# Altium footprint library Ant.PcbLib: 32 footprints (part 1 of 2)
Each footprint in its own frame and in the unit in brackets; x right, y up, seen from the top. Pads: shape width x height; smd on the part's side, far side on the other; paste and mask are expansions set on the pad; w line width, h text height; cw(c..) or ccw(c..) is an arc to the next point about the centre after c.
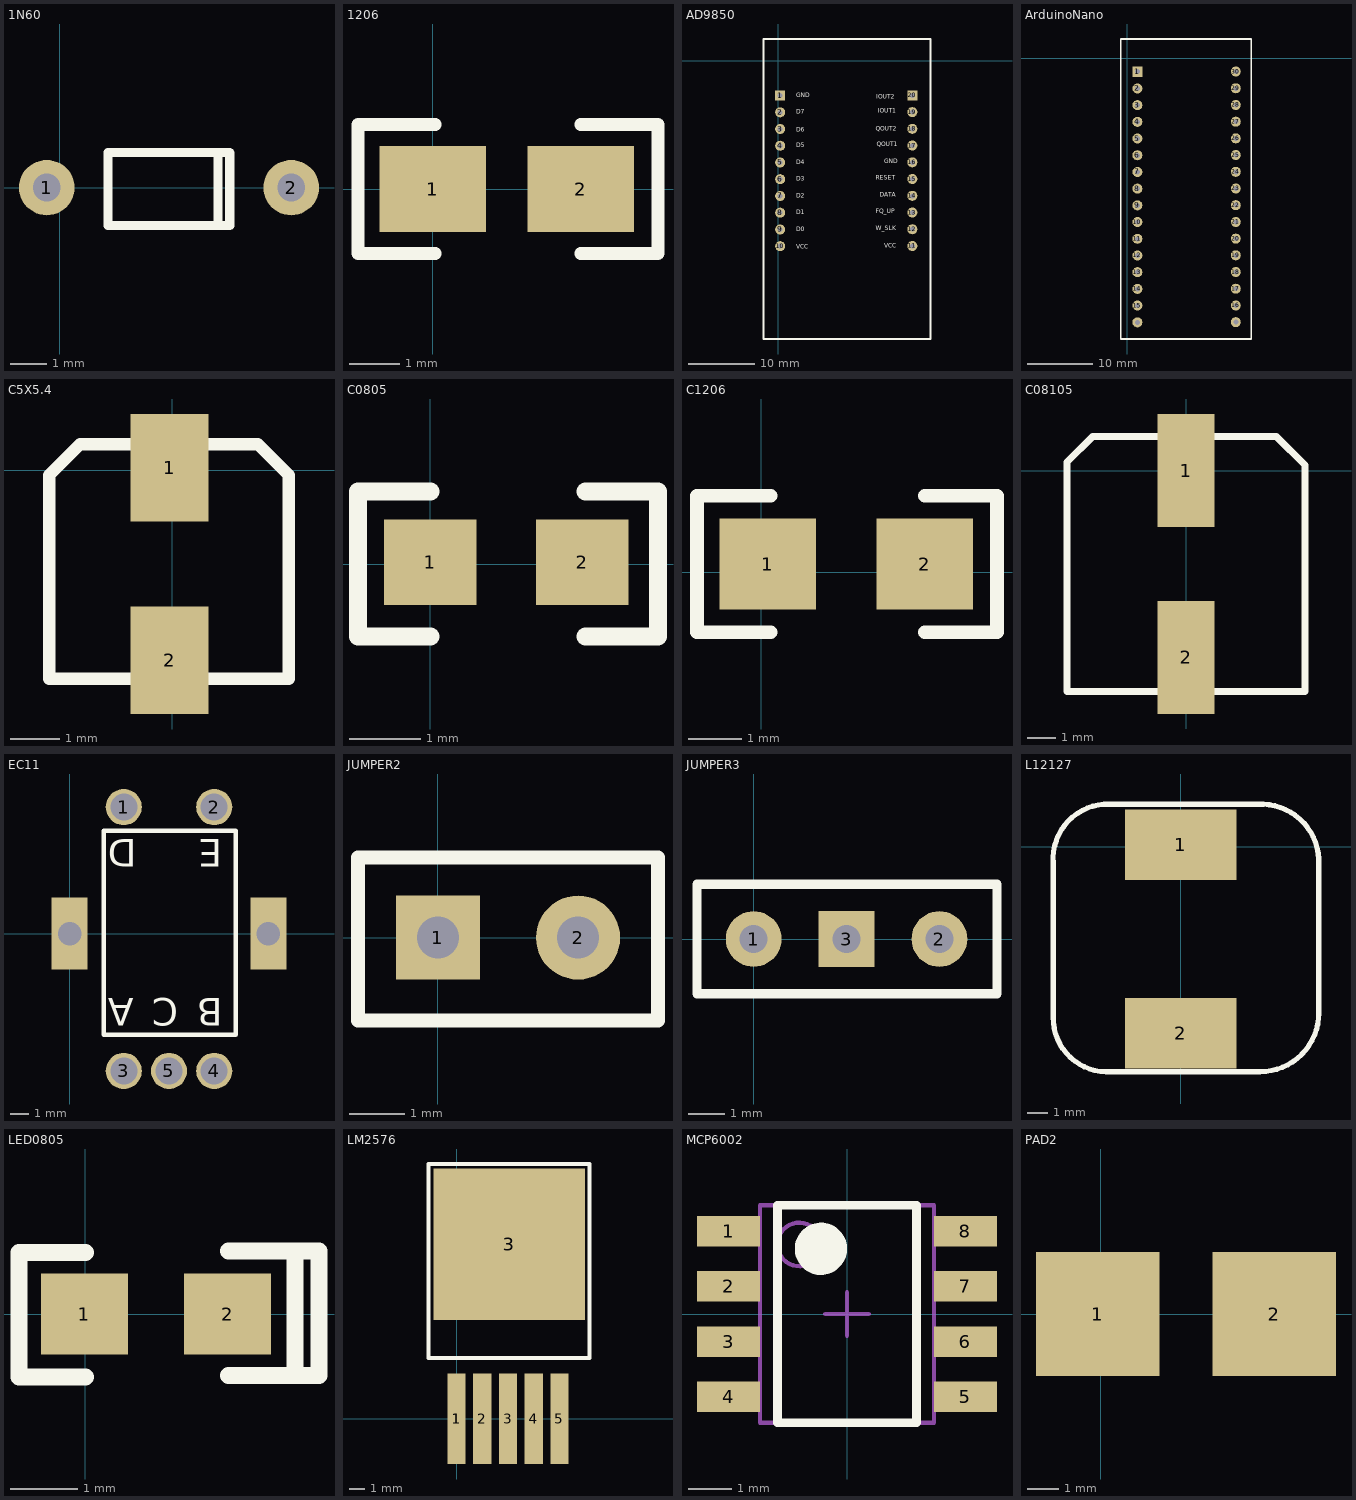
[diagram p0: the footprints below, top view; thin cyan lines are the x and y axes]

## 1N60 [mil]
pads (2):
  round 60 hole 30: 1(-14,0) 2(250,0)
Top Overlay:
  lines w10: 170.87,-38 170.87,37 ; 183,-41 52,-41 52,38 183,38 ; 183.52,-41 183.52,37.74
3D body "DIO(1N4007).STEP": height 100.5, standoff -100, extent -96,-52 334,49

## 1206 [mm]
pads (2):
  rect 2.1x1.7 smd: 1(0,0) 2(2.921,0)
Top Overlay:
  lines w0.254: 0.051,-1.27 -1.473,-1.27 -1.473,1.27 0.051,1.27 ; 2.921,-1.27 4.445,-1.27 4.445,1.27 2.921,1.27
3D body "RES1206.STEP": height 1, standoff 0, extent -0.203,-0.8 2.997,0.8

## AD9850 [mil]
pads (20):
  rect 60x60 hole 30: 1(10,-208) 20(800,-207)
  round 60 hole 30: 2(10,-308) 3(10,-408) 4(10,-508) 5(10,-608) 6(10,-708) 7(10,-808) 8(10,-908) 9(10,-1008) 10(10,-1108) 11(800,-1107) 12(800,-1007) 13(800,-907) 14(800,-807) 15(800,-707) 16(800,-607) 17(800,-507) 18(800,-407) 19(800,-307)
Top Overlay:
  lines w10: -90,-1663 909,-1663 909,130 -90,130 -90,-1663
  text "IOUT2" at 584.33,-227 h26
  text "IOUT1" at 593,-312 h26
  text "QOUT2" at 580,-417 h26
  text "QOUT1" at 588.66,-512 h26
  text "GND" at 631.98,-612 h26
  text "RESET" at 580,-712 h26
  text "DATA" at 605.99,-812 h26
  text "FQ_UP" at 580,-912 h26
  text "W_SLK" at 580,-1012 h26
  text "VCC" at 631.98,-1117 h26
  text "VCC" at 105,-1123 h26
  text "D0" at 105,-1018 h26
  text "D1" at 105,-918 h26
  text "D2" at 105,-818 h26
  text "D3" at 105,-718 h26
  text "D4" at 105,-618 h26
  text "D5" at 105,-518 h26
  text "D6" at 105,-423 h26
  text "D7" at 105,-318 h26
  text "GND" at 105,-218 h26
3D body "paizheng 5mm 9pin.step": height 180, standoff -115, extent -40,-1060 60,-160
3D body "paizheng 5mm 9pin.step": height 180, standoff -115, extent 750,-1056.99 850,-156.99

## ArduinoNano [mil]
pads (32):
  rect 60x60 hole 30: 1(60,-80)
  round 60 hole 30: 2(60,-180) 3(60,-280) 4(60,-380) 5(60,-480) 6(60,-580) 7(60,-680) 8(60,-780) 9(60,-880) 10(60,-980) 11(60,-1080) 12(60,-1180) 13(60,-1280) 14(60,-1380) 15(60,-1480) 16(649,-1479) 17(649,-1379) 18(649,-1279) 19(649,-1179) 20(649,-1079) 21(649,-979) 22(649,-879) 23(649,-779) 24(649,-679) 25(649,-579) 26(649,-479) 27(649,-379) 28(649,-279) 29(649,-179) 30(649,-79) ""(60,-1580) ""(649,-1579)
Top Overlay:
  lines w10: -40,-1680 742,-1680 742,116 -40,116 -40,-1680
3D body "paizheng 5mm 9pin.step": height 180, standoff -115, extent 10,-929.99 110,-29.99
3D body "paizheng 5mm 9pin.step": height 180, standoff -115, extent 10,-1623.99 110,-723.99
3D body "paizheng 5mm 9pin.step": height 180, standoff -115, extent 600,-924 700,-24
3D body "paizheng 5mm 9pin.step": height 180, standoff -115, extent 600,-1613 700,-713

## C5X5.4 [mil]
pads (2):
  rect 62.99x86.61 smd: 1(-2,2) 2(-2,-153)
Top Overlay:
  lines w10: -99,-168 94,-168 94,-4 69,21 -74,21 -99,-4 -99,-168
3D body "CAPE-B.STEP": height 212.6, standoff 0, extent -85.29,-162.55 84,18.55

## C0805 [mm]
pads (2):
  rect 1.3x1.2 smd: 1(0,0.025) 2(2.134,0.025)
Top Overlay:
  lines w0.254: 0,-1.016 -1.016,-1.016 -1.016,1.016 0,1.016 ; 2.184,-1.016 3.2,-1.016 3.2,1.016 2.184,1.016
3D body "电容0805.STEP": height 0.8, standoff 0, extent 0.042,-0.599 2.042,0.65

## C1206 [mil]
pads (2):
  rect 70.87x66.93 smd: 1(5,6) 2(120,6)
Top Overlay:
  lines w10: 7,-44 -47,-44 -47,56 7,56 ; 120,-43.99 173,-43.99 173,56.01 120,56.01
3D body "CAPC3216(1206).STEP": height 37.4, standoff 0, extent -0.99,-25.49 125,37.51

## C08105 [mm]
pads (2):
  rect 2x4 smd: 1(0,0) 2(0,-6.6)
Top Overlay:
  lines w0.254: -4.2,-7.8 -4.2,0.3 -3.3,1.2 3.2,1.2 4.2,0.2 4.2,-7.8 -4.2,-7.8
3D body "CAPE-E.STEP": height 6.2, standoff 0, extent -4.185,-7.777 4.115,1.223

## EC11 [mm]
pads (7):
  round 2 hole 1.5: 1(3,7) 2(8,7) 3(3,-7.6) 4(8,-7.6) 5(5.5,-7.6)
  rect 2x4 hole 1.3 square: ""(0,0) ""(11,0)
Top Overlay:
  lines w0.254: 1.9,-5.6 1.9,5.7 9.2,5.7 9.2,-5.6 1.9,-5.6
  text "B" at 8.484,-3.581 h1.52
  text "C" at 6.02,-3.581 h1.52
  text "A" at 3.556,-3.581 h1.52
  text "E" at 8.458,5.207 h1.52
  text "D" at 3.708,5.207 h1.52

## JUMPER2 [mil]
pads (2):
  rect 60x60 hole 30: 1(0,0)
  round 60 hole 30: 2(100,0)
Top Overlay:
  lines w10: -57,-59 157,-59 157,57 -57,57 -57,-59
3D body "HEADER 2H.STEP": height 170.28, standoff -118.11, extent -50,-51.8 150,273.8

## JUMPER3 [mil]
pads (3):
  round 60 hole 30: 1(0,0) 2(200,0)
  rect 60x60 hole 30: 3(100,0)
Top Overlay:
  lines w10: -61,-59 -61,59 262,59 262,-59 -61,-59

## L12127 [mm]
pads (2):
  rect 5.5x3.5 smd: 1(0,0.1) 2(0,-9.2)
Top Overlay:
  lines w0.254: -6.3,-8.4 ccw(c-3.65,-8.45) -3.7,-11.1 3.9,-11.1 ccw(c3.9,-8.2) 6.8,-8.2 6.8,-0.6 ccw(c3.95,-0.75) 3.8,2.1 -3.8,2.1 ccw(c-3.6,-0.6) -6.3,-0.8 -6.3,-8.4
3D body "CD127.STEP": height 6.9, standoff 0.2, extent -6.148,-10.695 6.352,1.805

## LED0805 [mm]
pads (2):
  rect 1.3x1.2 smd: 1(-0.016,0) 2(2.117,0)
Top Overlay:
  lines w0.254: 0,-0.94 -0.991,-0.94 -0.991,0.914 0,0.914 ; 2.134,-0.914 3.124,-0.914 ; 2.134,0.94 3.124,0.94 ; 3.124,-0.914 3.48,-0.914 3.48,0.94 3.124,0.94 ; 3.124,-0.914 3.124,0.94
3D body "LED0805.STEP": height 1.1, standoff 0, extent 0.032,-0.599 2.052,0.65

## LM2576 [mm]
pads (7):
  rect 1.2x6 smd: 1(0,0) 1(0,0) 2(1.7,0) 3(3.4,0) 4(5.1,0) 5(6.8,0)
  rect 10x10 smd: 3(3.48,11.532)
Top Overlay:
  lines w0.254: -1.854,4 -1.854,16.84 8.788,16.84 8.788,4 -1.854,4
3D body "TO263-5.STEP": height 5.18, standoff 0.38, extent -1.368,0.598 8.632,16.268

## MCP6002 [mm] "SOIC, 8-Leads, Body 4.90x3.85mm, Pitch 1.27mm, IPC Medium Density"
height 1.75
pads (8):
  rect 1.45x0.7 smd: 1(-2.725,1.905) 2(-2.725,0.635) 3(-2.725,-0.635) 4(-2.725,-1.905) 5(2.725,-1.905) 6(2.725,-0.635) 7(2.725,0.635) 8(2.725,1.905)
Top Overlay:
  circle w0.6: c-0.6,1.5 r0.3
  lines w0.2: -1.6,-2.5 -1.6,2.5 1.6,2.5 1.6,-2.5 -1.6,-2.5
Mechanical 13:
  circle w0.1: c-1.1,1.6 r0.5
  lines w0.1: -2,-2.5 -2,2.5 2,2.5 2,-2.5 -2,-2.5
Mechanical 15:
  lines w0.1: -0.5,0 0.5,0 ; 0,-0.5 0,0.5
3D body "SO-8.STEP": height 1.7, standoff 0, extent -3.079,-2.425 2.921,2.475

## PAD2 [mm]
pads (2):
  rect 4x4 smd: 1(-0.1,0) 2(5.6,0)